# EAGLE library part 1787030 (library con-phoenix-dmc)
TERM BLOCK HDR 8POS 90DEG 3.5MM
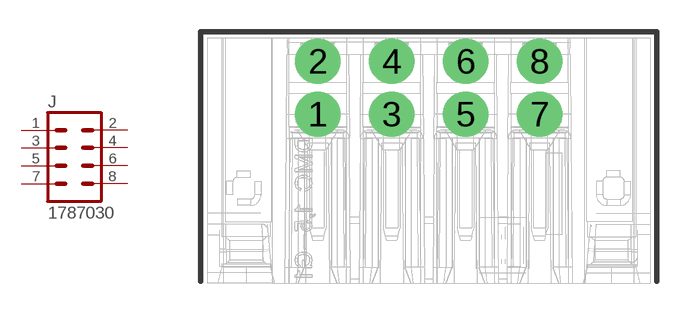
[diagram p0: symbol with the pads of 1787030; footprint 1787030]

Designator prefix J

## 1787030  [1787030]
1  1  pas
2  2  pas
3  3  pas
4  4  pas
5  5  pas
6  6  pas
7  7  pas
8  8  pas

## Footprint 1787030 (pad centres in mm)
TERM BLOCK HDR 8POS 90DEG 3.5MM
drill 1.422: 1 -5.25,0; 2 -5.25,2.5; 3 -1.75,0; 4 -1.75,2.5; 5 1.75,0; 6 1.75,2.5; 7 5.25,0; 8 5.25,2.5